# Altium schematic symbol library 43650-0415.SchLib: 1 symbol
Pins are listed as number, name and electrical type; pins without a type are passive.

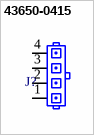
[diagram p0: symbol 43650-0415]

## 43650-0415
designator J?
=Description
pins: 1, 2, 3, 4